# EAGLE library part 74LVC2G14 (library BaseApp)
Dual inverting Schmitt trigger Digikey No:- __568-4840-1-ND__
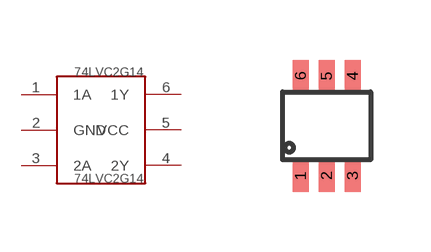
[diagram p31: symbol with the pads of 6TSOP; footprint 6TSOP]

Designator prefix 74LVC2G14

## 74LVC2G14SOT363  [6TSOP]
1  1A
2  GND
3  2A
4  2Y
5  VCC
6  1Y

## Footprint 6TSOP (pad centres in mm)
smd 0.4 x 0.8: 1 -0.566,-1.162; 2 0.084,-1.162; 3 0.734,-1.162; 4 0.734,1.338; 5 0.084,1.338; 6 -0.566,1.338